# Altium footprint library 电源板.PcbLib: 10 footprints
Each footprint in its own frame and in the unit in brackets; x right, y up, seen from the top. Pads: shape width x height; smd on the part's side, far side on the other; paste and mask are expansions set on the pad; w line width, h text height; cw(c..) or ccw(c..) is an arc to the next point about the centre after c.
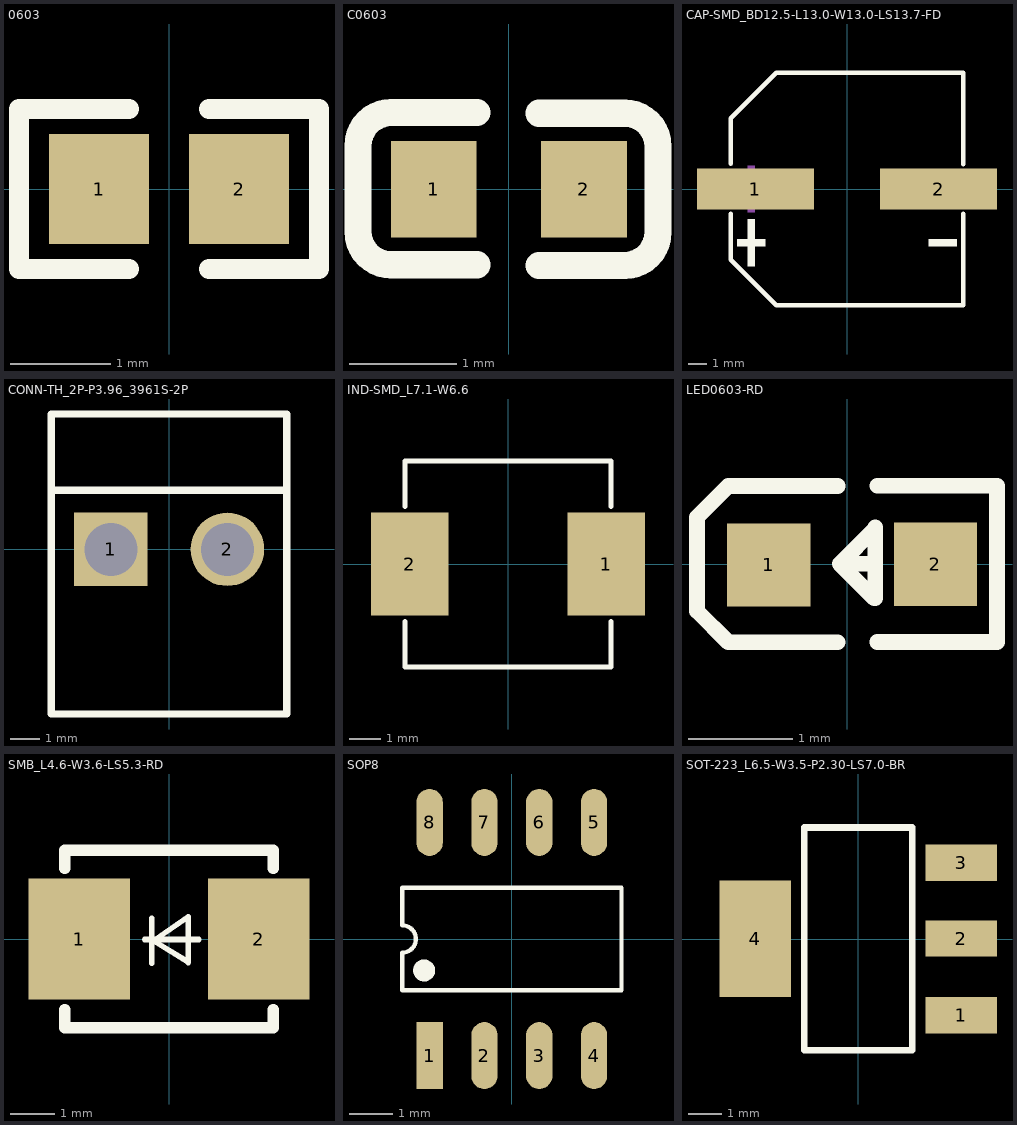
[diagram p0: the footprints below, top view; thin cyan lines are the x and y axes]

## 0603 [mm]
pads (2):
  rect 1x1.1 smd: 1(-0.7,0) 2(0.7,0)
Top Overlay:
  lines w0.2: -0.4,-0.8 -1.5,-0.8 -1.5,-0.2 -1.5,0.8 -0.4,0.8 ; 0.4,-0.8 1.5,-0.8 1.5,0.8 0.4,0.8

## C0603 [mm]
pads (2):
  rect 0.8x0.9 smd: 1(-0.7,0) 2(0.7,0)
Top Overlay:
  lines w0.254: -0.296,-0.704 -1.096,-0.704 cw(c-1.096,-0.394) -1.406,-0.394 -1.405,0.406 cw(c-1.096,0.406) -1.096,0.715 -0.296,0.715 ; 0.28,-0.71 1.08,-0.71 ccw(c1.08,-0.4) 1.39,-0.4 1.39,0.4 ccw(c1.08,0.4) 1.08,0.71 0.28,0.71

## CAP-SMD_BD12.5-L13.0-W13.0-LS13.7-FD [mm]
pads (2):
  rect 6.5x2.3 smd: 1(-5.1,0) 2(5.1,0)
Top Overlay:
  region: -5.525,-1.69 -5.525,-4.29 -5.135,-4.29 -5.135,-1.69
  region: -6.11,-2.795 -6.11,-3.185 -4.55,-3.185 -4.55,-2.795
  region: 6.11,-2.795 6.11,-3.185 4.55,-3.185 4.55,-2.795
  lines w0.254: -6.477,-1.381 -6.477,-3.937 -3.937,-6.477 6.477,-6.477 6.477,-1.381 ; -6.477,1.397 -6.477,3.937 -3.937,6.477 6.477,6.477 6.477,1.381
Mechanical 15:
  region: -5.525,1.3 -5.525,-1.3 -5.135,-1.3 -5.135,1.3
  region: -6.11,0.195 -6.11,-0.195 -4.55,-0.195 -4.55,0.195
  region: 6.11,0.195 6.11,-0.195 4.55,-0.195 4.55,0.195

## CONN-TH_2P-P3.96_3961S-2P [mm]
pads (2):
  rect 2.5x2.5 hole 1.8: 1(-1.981,0)
  round 2.5 hole 1.8: 2(1.981,0)
Top Overlay:
  lines w0.254: -4.003,2 3.997,2 ; -4.003,-5.6 -4.003,4.6 3.997,4.6 3.997,-5.6 -4.003,-5.6

## IND-SMD_L7.1-W6.6 [mm]
pads (2):
  rect 2.474x3.32 smd: 1(3.153,0) 2(-3.153,0)
Top Overlay:
  lines w0.152: -3.302,-1.84 -3.302,-3.302 3.302,-3.302 3.302,-1.84 ; -3.302,1.84 -3.302,3.302 3.302,3.302 3.302,1.84

## LED0603-RD [mm]
pads (2):
  rect 0.8x0.8 smd: 1(-0.75,-0.009) 2(0.849,-0.002)
Top Overlay:
  lines w0.15: -0.09,-0.751 -1.14,-0.751 -1.44,-0.451 -1.44,-0.351 -1.44,0.349 -1.44,0.449 -1.14,0.749 -0.09,0.749 ; 0.27,0.001 -0.07,0.001 ; 0.29,-0.749 1.44,-0.749 ; 0.29,0.751 1.44,0.751 ; 1.44,-0.729 1.44,0.751 ; -0.07,0.001 0.26,-0.329 0.27,-0.329 0.27,0.351 0.27,0.341 -0.07,0.001
Mechanical 15:
  region: -1.02,0.056 -0.48,0.056 -0.48,-0.074 -1.02,-0.074
  region: 0.784,-0.272 0.784,0.268 0.914,0.268 0.914,-0.272
  region: 0.578,0.063 1.119,0.063 1.119,-0.067 0.578,-0.067

## PCBComponent_1 [mil]

## SMB_L4.6-W3.6-LS5.3-RD [mm]
pads (2):
  rect 2.29x2.72 smd: 1(-2.025,0) 2(2.025,0)
Top Overlay:
  lines w0.127: -0.548,-0.01 0.671,-0.01 ; -0.389,-0.546 -0.389,0.47 ; 0.433,-0.53 0.433,0.486 ; 0.433,-0.52 -0.35,-0.04 0.433,0.5
  lines w0.254: -2.35,-1.591 -2.35,-2 2.35,-2 2.35,-1.591 ; -2.35,1.591 -2.35,2 2.35,2 2.35,1.591

## SOP8 [mil]
pads (8):
  rect 24x61 smd: 1(-75,-106.3)
  oval 24x61 smd: 2(-25,-106.3) 3(25,-106.3) 4(75,-106.3) 5(75,106.3) 6(25,106.3) 7(-25,106.3) 8(-75,106.3)
Top Overlay:
  circle w10: c-80,-28.7 r5
  lines w4: -100,-46.8 -100,-12.5 ccw(c-100,0) -100,12.5 -100,46.8 100,46.8 100,-46.8 -100,-46.8

## SOT-223_L6.5-W3.5-P2.30-LS7.0-BR [mil]
pads (4):
  rect 85x43 smd: 1(122,-90.5) 2(122,0.5) 3(122,90.5)
  rect 85x138 smd: 4(-122,0.5)
Top Overlay:
  lines w7.9: -63.8,-131.7 64.1,-131.7 64.1,132.1 -63.8,132.1 -63.8,-131.7